# EAGLE library part M10 (library TrackerBase2)
Sullins Connector Solutions PPTC101LFBN-RC $0.65 10 Position Header Connector Through Hole https://www.digikey.com/product-detail/en/sullins-connector-solutions/PPTC101LFBN-RC/S7008-ND/810149
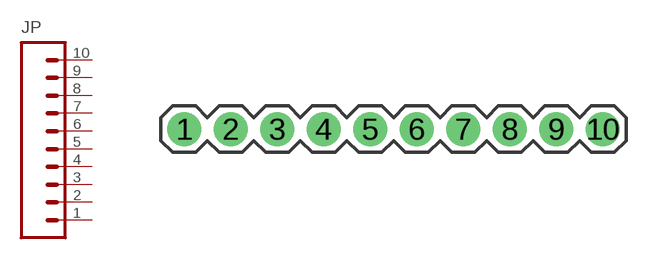
[diagram p2: symbol with the pads of 1X10; footprint 1X10]

Designator prefix JP

## M10  [1X10]
1  1  pas
2  2  pas
3  3  pas
4  4  pas
5  5  pas
6  6  pas
7  7  pas
8  8  pas
9  9  pas
10  10  pas

## Footprint 1X10 (pad centres in mm)
drill 1.016 pad 1.88: 1 0,0; 2 2.54,0; 3 5.08,0; 4 7.62,0; 5 10.16,0; 6 12.7,0; 7 15.24,0; 8 17.78,0; 9 20.32,0; 10 22.86,0